# Altium footprint library PCB - LEADED - SOIC-18.PCBLIB: 1 footprints
Each footprint in its own frame and in the unit in brackets; x right, y up, seen from the top. Pads: shape width x height; smd on the part's side, far side on the other; paste and mask are expansions set on the pad; w line width, h text height; cw(c..) or ccw(c..) is an arc to the next point about the centre after c.
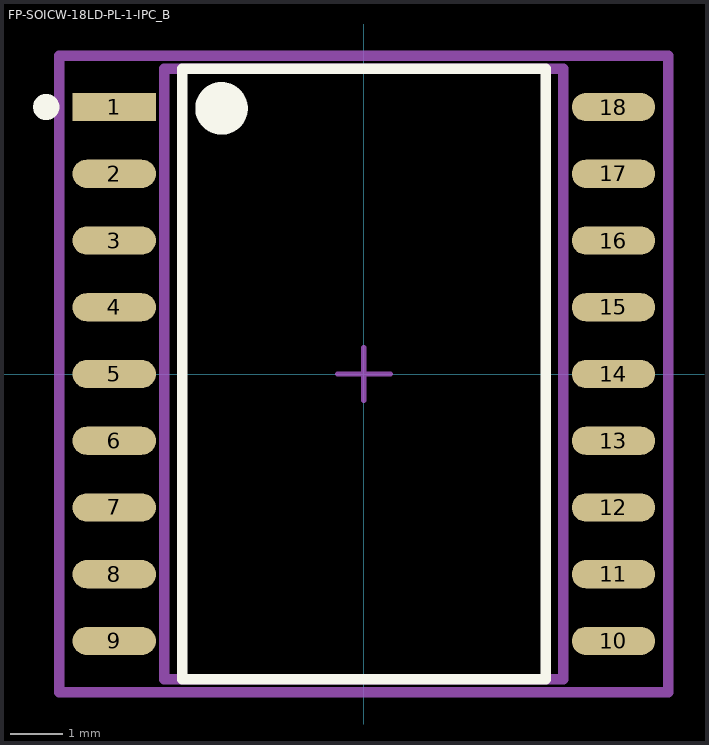
[diagram p0: the footprint, top view; thin cyan lines are the x and y axes]

## FP-SOICW-18LD-PL-1-IPC_B [mil]
pads (18):
  rect 62.43x21.15 smd paste+0 mask+0: 1(-187,200)
  rrect100% 62.43x21.15 smd paste+0 mask+0: 2(-187,150) 3(-187,100) 4(-187,50) 5(-187,0) 6(-187,-50) 7(-187,-100) 8(-187,-150) 9(-187,-200) 10(187,-200) 11(187,-150) 12(187,-100) 13(187,-50) 14(187,0) 15(187,50) 16(187,100) 17(187,150) 18(187,200)
Top Overlay:
  circle w9.84: c-237.9,200 r4.92
  circle w19.68: c-106.57,198.98 r9.84
  lines w7.87: -136.1,-228.5 -136.1,228.5 136.1,228.5 136.1,-228.5 -136.1,-228.5
Top Assembly:
  lines w7.87: -149.5,-228.5 149.5,-228.5 149.5,228.5 -149.5,228.5 -149.5,-228.5
Top Courtyard:
  lines w7.87: -228.06,-238.35 -228.06,238.35 228.06,238.35 228.06,-238.35 -228.06,-238.35
Top Designator:
  text ".Designator" at -90,262.39 h39.37
Top Component Center:
  lines w3.94: -19.68,0 19.68,0 ; 0,-19.68 0,19.68
3D body "IC_Microchip_MIC5841YWM-TR_eec.STEP": height 10, standoff 0, extent -228.06,-238.35 228.06,238.35